# Altium footprint library PcbLib.PcbLib: 22 footprints (part 1 of 2)
Each footprint in its own frame and in the unit in brackets; x right, y up, seen from the top. Pads: shape width x height; smd on the part's side, far side on the other; paste and mask are expansions set on the pad; w line width, h text height; cw(c..) or ccw(c..) is an arc to the next point about the centre after c.
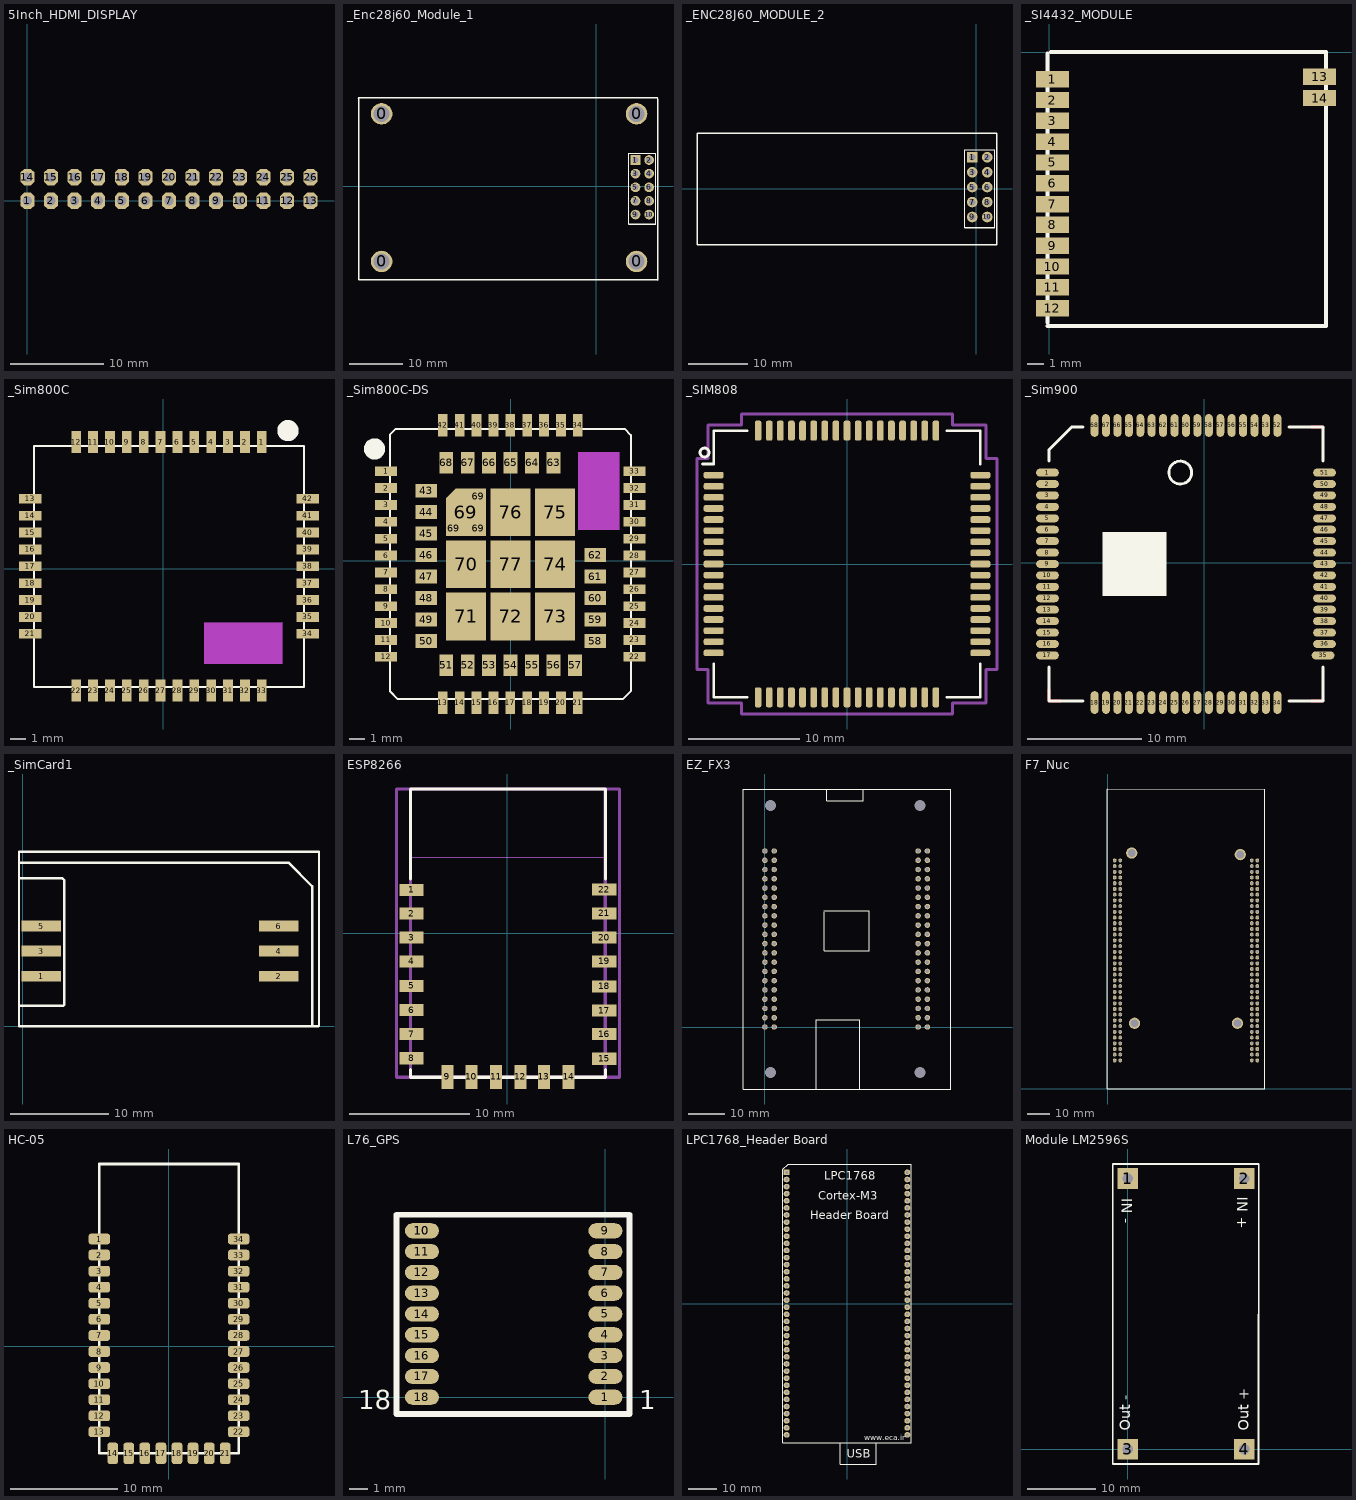
[diagram p0: the footprints below, top view; thin cyan lines are the x and y axes]

## 5Inch_HDMI_DISPLAY [mm]
pads (26):
  oct 1.5x1.8 hole 1: 1(0,0) 2(2.54,0) 3(5.08,0) 4(7.62,0) 5(10.16,0) 6(12.7,0) 7(15.24,0) 8(17.78,0) 9(20.32,0) 10(22.86,0) 11(25.4,0) 12(27.94,0) 13(30.48,0) 14(0,2.54) 15(2.54,2.54) 16(5.08,2.54) 17(7.62,2.54) 18(10.16,2.54) 19(12.7,2.54) 20(15.24,2.54) 21(17.78,2.54) 22(20.32,2.54) 23(22.86,2.54) 24(25.4,2.54) 25(27.94,2.54) 26(30.48,2.54)

## _Enc28j60_Module_1 [mm]
pads (14):
  round 4 hole 3: 0(-40,-14) 0(-40,13.5) 0(7.5,-14) 0(7.5,13.5)
  rect 1.8x1.8 hole 1.1: 1(7.3,4.9)
  round 1.8 hole 1.1: 2(9.84,4.9) 3(7.3,2.36) 4(9.84,2.36) 5(7.3,-0.18) 6(9.84,-0.18) 7(7.3,-2.72) 8(9.84,-2.72) 9(7.3,-5.26) 10(9.84,-5.26)
Top Overlay:
  lines w0.2: 6.03,-7.1 6.03,4.265 6.03,6.17 11.11,6.17 11.11,4.265 11.11,-7.1
  lines w0.25: 6.03,-7.1 11.11,-7.1 ; 11.5,16.3 11.5,-17.5 11.4,-17.4 -44.3,-17.4 -44.3,16.4 -44.4,16.5 11.5,16.5

## _ENC28J60_MODULE_2 [mm]
pads (10):
  rect 1.8x1.8 hole 1.1: 1(-0.7,5.4)
  round 1.8 hole 1.1: 2(1.84,5.4) 3(-0.7,2.86) 4(1.84,2.86) 5(-0.7,0.32) 6(1.84,0.32) 7(-0.7,-2.22) 8(1.84,-2.22) 9(-0.7,-4.76) 10(1.84,-4.76)
Top Overlay:
  lines w0.2: -1.97,-6.6 -1.97,4.765 -1.97,6.67 3.11,6.67 3.11,4.765 3.11,-6.6
  lines w0.25: -1.97,-6.6 3.11,-6.6 ; -47.5,-9.5 3.5,-9.5 3.5,9.5 -47.5,9.5 -47.5,-9.5

## _SI4432_MODULE [mm]
pads (14):
  rect 2x1 smd: 1(0.198,-1.651) 2(0.198,-2.921) 3(0.198,-4.191) 4(0.198,-5.461) 5(0.198,-6.731) 6(0.198,-8.001) 7(0.198,-9.271) 8(0.198,-10.541) 9(0.198,-11.811) 10(0.198,-13.081) 11(0.198,-14.351) 12(0.198,-15.621) 13(16.5,-1.5) 14(16.5,-2.8)
Top Overlay:
  lines w0.25: -0.094,-16.7 16.9,-16.7 16.9,0 0.109,0 ; -0.094,-16.5 -0.094,-0.1

## _Sim800C [mm]
pads (42):
  rect 0.635x1.45 smd: 1(6.427,8.274) 2(5.327,8.274) 3(4.227,8.274) 4(3.127,8.274) 5(2.027,8.274) 6(0.927,8.274) 7(-0.173,8.274) 8(-1.273,8.274) 9(-2.373,8.274) 10(-3.473,8.274) 11(-4.573,8.274) 12(-5.673,8.274) 22(-5.673,-7.926) 23(-4.573,-7.926) 24(-3.473,-7.926) 25(-2.373,-7.926) 26(-1.273,-7.926) 27(-0.173,-7.926) 28(0.927,-7.926) 29(2.027,-7.926) 30(3.127,-7.926) 31(4.227,-7.926) 32(5.327,-7.926) 33(6.427,-7.926)
  rect 1.45x0.635 smd: 13(-8.673,4.574) 14(-8.673,3.474) 15(-8.673,2.374) 16(-8.673,1.274) 17(-8.673,0.174) 18(-8.673,-0.926) 19(-8.673,-2.026) 20(-8.673,-3.126) 21(-8.673,-4.226) 34(9.427,-4.226) 35(9.427,-3.126) 36(9.427,-2.026) 37(9.427,-0.926) 38(9.427,0.174) 39(9.427,1.274) 40(9.427,2.374) 41(9.427,3.474) 42(9.427,4.574)
Top Overlay:
  circle w0.813: c8.128,9.017 r0.284
  lines w0.127: -8.423,-7.676 9.177,-7.676 9.177,8.024 -8.423,8.024 -8.423,-7.676
Mechanical 8 keep-out:
  rectangle: 2.667,-6.196 7.767,-3.496
Mechanical 9 keep-out:
  rectangle: 2.667,-6.196 7.767,-3.496

## _Sim800C-DS [mm]
pads (80):
  rect 1.45x0.635 smd: 1(-8.12,5.846) 2(-8.12,4.746) 3(-8.12,3.646) 4(-8.12,2.546) 5(-8.12,1.446) 6(-8.12,0.346) 7(-8.12,-0.754) 8(-8.12,-1.854) 9(-8.12,-2.954) 10(-8.12,-4.054) 11(-8.12,-5.154) 12(-8.12,-6.254) 22(8.08,-6.254) 23(8.08,-5.154) 24(8.08,-4.054) 25(8.08,-2.954) 26(8.08,-1.854) 27(8.08,-0.754) 28(8.08,0.346) 29(8.08,1.446) 30(8.08,2.546) 31(8.08,3.646) 32(8.08,4.746) 33(8.08,5.846)
  rect 0.635x1.45 smd: 13(-4.42,-9.254) 14(-3.32,-9.254) 15(-2.22,-9.254) 16(-1.12,-9.254) 17(-0.02,-9.254) 18(1.08,-9.254) 19(2.18,-9.254) 20(3.28,-9.254) 21(4.38,-9.254) 34(4.38,8.846) 35(3.28,8.846) 36(2.18,8.846) 37(1.08,8.846) 38(-0.02,8.846) 39(-1.12,8.846) 40(-2.22,8.846) 41(-3.32,8.846) 42(-4.42,8.846)
  rect 1.4x0.9 smd: 43(-5.5,4.575) 44(-5.5,3.175) 45(-5.5,1.775) 46(-5.5,0.375) 47(-5.5,-1.025) 48(-5.5,-2.425) 49(-5.5,-3.825) 50(-5.5,-5.225) 58(5.5,-5.225) 59(5.5,-3.825) 60(5.5,-2.425) 61(5.5,-1.025) 62(5.5,0.375)
  rect 0.9x1.4 smd: 51(-4.2,-6.8) 52(-2.8,-6.8) 53(-1.4,-6.8) 54(0,-6.8) 55(1.4,-6.8) 56(2.8,-6.8) 57(4.2,-6.8) 63(2.8,6.4) 64(1.4,6.4) 65(0,6.4) 66(-1.4,6.4) 67(-2.8,6.4) 68(-4.2,6.4)
  rect 1x1 smd mask+0.102: 69(-3.72,2.124) 69(-2.12,2.124) 69(-2.12,4.224)
  oct 2.6x3.1 smd mask+0.102: 69(-2.92,3.174)
  rect 2.6x3.1 smd: 70(-2.9,-0.225) 71(-2.9,-3.625) 72(0,-3.625) 73(2.9,-3.625) 74(2.9,-0.225) 75(2.9,3.175) 76(0,3.175) 77(0,-0.225)
Top Overlay:
  circle w0.813: c-8.863,7.293 r0.284
  lines w0.127: -7.87,-8.48 -7.87,8.205 -7.479,8.596 7.429,8.596 7.83,8.195 7.83,-8.495 7.321,-9.004 -7.346,-9.004 -7.87,-8.48
Mechanical 8 keep-out:
  region: 7.1,2 7.1,7.1 4.4,7.1 4.4,2
Mechanical 9 keep-out:
  region: 7.1,2 7.1,7.1 4.4,7.1 4.4,2

## _SIM808 [mm]
pads (68):
  rrect60% 1.8x0.6 smd: 1(-12,8) 2(-12,7) 3(-12,6) 4(-12,5) 5(-12,4) 6(-12,3) 7(-12,2) 8(-12,1) 9(-12,0) 10(-12,-1) 11(-12,-2) 12(-12,-3) 13(-12,-4) 14(-12,-5) 15(-12,-6) 16(-12,-7) 17(-12,-8) 35(12,-8) 36(12,-7) 37(12,-6) 38(12,-5) 39(12,-4) 40(12,-3) 41(12,-2) 42(12,-1) 43(12,0) 44(12,1) 45(12,2) 46(12,3) 47(12,4) 48(12,5) 49(12,6) 50(12,7) 51(12,8)
  rrect60% 0.6x1.8 smd: 18(-8,-12) 19(-7,-12) 20(-6,-12) 21(-5,-12) 22(-4,-12) 23(-3,-12) 24(-2,-12) 25(-1,-12) 26(0,-12) 27(1,-12) 28(2,-12) 29(3,-12) 30(4,-12) 31(5,-12) 32(6,-12) 33(7,-12) 34(8,-12) 52(8,12) 53(7,12) 54(6,12) 55(5,12) 56(4,12) 57(3,12) 58(2,12) 59(1,12) 60(0,12) 61(-1,12) 62(-2,12) 63(-3,12) 64(-4,12) 65(-5,12) 66(-6,12) 67(-7,12) 68(-8,12)
Top Overlay:
  circle w0.254: c-12.827,10.033 r0.402
  lines w0.254: -13,9 -12,9 -12,12 -9,12 ; -12,-9 -12,-12 -9,-12 ; 9,-12 12,-12 12,-9 ; 9,12 12,12 12,9
Mechanical 27:
  lines w0.254: -13.5,-9.5 -13.5,9.5 -12.5,9.5 -12.5,12.5 -9.5,12.5 -9.5,13.5 9.5,13.5 9.5,12.5 12.5,12.5 12.5,9.5 13.5,9.5 13.5,-9.5 12.5,-9.5 12.5,-12.5 9.5,-12.5 9.5,-13.5 -9.5,-13.5 -9.5,-12.5 -12.5,-12.5 -12.5,-9.5 -13.5,-9.5

## _Sim900 [mm]
pads (68):
  oval 2x0.7 smd: 1(-13.716,7.874) 2(-13.716,6.874) 3(-13.716,5.874) 4(-13.716,4.874) 5(-13.716,3.874) 6(-13.716,2.874) 7(-13.716,1.874) 8(-13.716,0.874) 9(-13.716,-0.126) 10(-13.716,-1.126) 11(-13.716,-2.126) 12(-13.716,-3.126) 13(-13.716,-4.126) 14(-13.716,-5.126) 15(-13.716,-6.126) 16(-13.716,-7.126) 17(-13.716,-8.126) 35(10.411,-8.126) 36(10.541,-7.126) 37(10.541,-6.126) 38(10.541,-5.126) 39(10.541,-4.126) 40(10.541,-3.126) 41(10.541,-2.126) 42(10.541,-1.126) 43(10.541,-0.126) 44(10.541,0.874) 45(10.541,1.874) 46(10.541,2.874) 47(10.541,3.874) 48(10.541,4.874) 49(10.541,5.874) 50(10.541,6.874) 51(10.541,7.874)
  oval 0.7x2 smd: 18(-9.589,-12.253) 19(-8.589,-12.253) 20(-7.589,-12.253) 21(-6.589,-12.253) 22(-5.589,-12.253) 23(-4.589,-12.253) 24(-3.589,-12.253) 25(-2.589,-12.253) 26(-1.589,-12.253) 27(-0.589,-12.253) 28(0.411,-12.253) 29(1.411,-12.253) 30(2.411,-12.253) 31(3.411,-12.253) 32(4.411,-12.253) 33(5.411,-12.253) 34(6.411,-12.253) 52(6.411,12.001) 53(5.411,12.001) 54(4.411,12.001) 55(3.411,12.001) 56(2.411,12.001) 57(1.411,12.001) 58(0.411,12.001) 59(-0.589,12.001) 60(-1.589,12.001) 61(-2.589,12.001) 62(-3.589,12.001) 63(-4.589,12.001) 64(-5.589,12.001) 65(-6.589,12.001) 66(-7.589,12.001) 67(-8.589,12.001) 68(-9.589,12.001)
Top Layer:
  lines w0.254: -13.589,-11.126 -13.589,-12.126 -12.589,-12.126 ; 9.411,-12.126 10.411,-12.126 ; 9.411,11.874 10.411,11.874
Top Overlay:
  circle w0.254: c-2.089,7.874 r1
  rectangle: -8.889,-2.926 -3.289,2.674
  lines w0.254: -13.589,-9.126 -13.589,-12.126 -10.589,-12.126 ; -13.589,8.874 -13.589,9.874 -11.589,11.874 -10.589,11.874 ; 7.411,-12.126 10.411,-12.126 10.411,-9.126 ; 7.411,11.874 10.411,11.874 10.411,8.874

## _SimCard1 [mm]
pads (6):
  rect 4x1.1 smd: 1(1.84,5.08) 2(25.9,5.08) 3(1.84,7.62) 4(25.9,7.62) 5(1.84,10.16) 6(25.9,10.16)
Top Overlay:
  lines w0.25: -0.3,15 2.6,15 4,15 4.2,14.8 4.2,2.2 4.1,2.1 2,2.1 ; -0.3,16.6 26.9,16.6 29.3,14.2 29.3,0 ; -0.2,2.1 2.8,2.1 ; -0.4,0 -0.4,17.7 30,17.7 30,0.1 29.9,0 -0.4,0

## ESP8266 [mm]
pads (22):
  rect 2x1 smd: 1(-7.95,3.607) 2(-7.95,1.637) 3(-7.95,-0.363) 4(-7.95,-2.333) 5(-7.95,-4.373) 6(-7.95,-6.383) 7(-7.95,-8.373) 8(-7.95,-10.383) 15(8.05,-10.423) 16(8.05,-8.383) 17(8.05,-6.423) 18(8.05,-4.403) 19(8.05,-2.343) 20(8.05,-0.363) 21(8.05,1.657) 22(8.05,3.637)
  rect 1x2 smd: 9(-4.98,-11.938) 10(-3,-11.938) 11(-0.94,-11.938) 12(1.08,-11.938) 13(3.04,-11.938) 14(5.08,-11.938)
Top Overlay:
  lines w0.254: -8.034,-11.31 -8.034,-11.962 8.134,-11.962 8.134,-11.309 ; -8.034,4.523 -8.034,11.978 8.134,11.978 8.134,4.523
Mechanical 13:
  lines w0.051: -8.077,6.334 -8.077,11.989 8.179,11.989 8.179,6.334 -8.077,6.334
  lines w0.254: -8.034,-11.961 8.134,-11.961 8.134,11.978 -8.034,11.978 -8.034,-11.961
Mechanical 15:
  lines w0.254: -9.22,-11.961 -9.22,11.978 9.322,11.978 9.322,-11.961 -9.22,-11.961
3D body "User Library-ESP8266-12E.STEP": height 2.6, standoff -0.4, extent -7.949,-11.938 8.051,12.442

## EZ_FX3 [mm]
pads (84):
  round 1.5 hole 3: 2(1.5,-12.5) 2(1.5,60.76) 2(42.5,-12.5) 2(42.5,60.76)
  round 1.5 hole 1: 4(0,7.62) 5(0,10.16) 6(0,12.7) 7(0,15.24) 8(0,17.78) 9(0,20.32) 10(0,22.86) 11(0,25.4) 12(0,27.94) 13(0,30.48) 14(0,33.02) 15(0,35.56) 16(0,38.1) 17(0,40.64) 18(0,43.18) 19(0,45.72) 20(0,48.26) 24(2.54,7.62) 25(2.54,10.16) 26(2.54,12.7) 27(2.54,15.24) 28(2.54,17.78) 29(2.54,20.32) 30(2.54,22.86) 31(2.54,25.4) 32(2.54,27.94) 33(2.54,30.48) 34(2.54,33.02) 35(2.54,35.56) 36(2.54,38.1) 38(2.54,43.18) 40(2.54,48.26) 43(42,5.08) 44(42,7.62) 45(42,10.16) 46(42,12.7) 47(42,15.24) 48(42,17.78) 49(42,20.32) 50(42,22.86) 51(42,25.4) 52(42,27.94) 53(42,30.48) 54(42,33.02) 55(42,35.56) 56(42,38.1) 57(42,40.64) 58(42,43.18) 59(42,45.72) 62(44.54,2.54) 64(44.54,7.62) 65(44.54,10.16) 66(44.54,12.7) 70(44.54,22.86) 71(44.54,25.4) 72(44.54,27.94) 74(44.54,33.02) 76(44.54,38.1) 77(44.54,40.64) 78(44.54,43.18) 79(44.54,45.72) GND(0,5.08) GND(2.54,5.08) GND(2.54,40.64) GND(2.54,45.72) GND(42,48.26) GND(44.54,15.24) GND(44.54,17.78) GND(44.54,20.32) GND(44.54,30.48) GND(44.54,35.56) GND(44.54,48.26) NC(44.54,5.08) V_1.2v(0,0) V_1.2v(42,0) V_3.3v(2.54,0) V_3.3v(44.54,0) V_BUS(0,2.54) V_BUS(2.54,2.54) VIO(42,2.54)
Top Overlay:
  lines w0.3: 14,-17 14,2 26,2 26,-17 ; 16.2,31.45 16.2,20.95 16.25,20.9 28.575,20.9 28.575,31.85 28.5,31.925 16.325,31.925 16.2,31.8 ; 17,65.225 17,62.025 17.025,62.05 27,62.05 ; 27,62.175 27,65.075 ; -6,-17 -6,65.26 51,65.26 51,-17 -6,-17

## F7_Nuc [mm]
pads (148):
  oct 1.5x1.8 hole 1: 1(3.125,12.605) 2(5.665,12.605) 3(3.125,15.145) 4(5.665,15.145) 5(3.125,17.685) 6(5.665,17.685) 7(3.125,20.225) 8(5.665,20.225) 9(3.125,22.765) 10(5.665,22.765) 11(3.125,25.305) 12(5.665,25.305) 13(3.125,27.845) 14(5.665,27.845) 15(3.125,30.385) 16(5.665,30.385) 17(3.125,32.925) 18(5.665,32.925) 19(3.125,35.465) 20(5.665,35.465) 21(3.125,38.005) 22(5.665,38.005) 23(3.125,40.545) 24(5.665,40.545) 25(3.125,43.085) 26(5.665,43.085) 27(3.125,45.625) 28(5.665,45.625) 29(3.125,48.165) 30(5.665,48.165) 31(3.125,50.705) 32(5.665,50.705) 33(3.125,53.245) 34(5.665,53.245) 35(3.125,55.785) 36(5.665,55.785) 37(3.125,58.325) 38(5.665,58.325) 39(3.125,60.865) 40(5.665,60.865) 41(3.125,63.405) 42(5.665,63.405) 43(3.125,65.945) 44(5.665,65.945) 45(3.125,68.485) 46(5.665,68.485) 47(3.125,71.025) 48(5.665,71.025) 49(3.125,73.565) 50(5.665,73.565) 51(3.125,76.105) 52(5.665,76.105) 53(3.125,78.645) 54(5.665,78.645) 55(3.125,81.185) 56(5.665,81.185) 57(3.125,83.725) 58(5.665,83.725) 59(3.125,86.265) 60(5.665,86.265) 61(3.125,88.805) 62(5.665,88.805) 63(3.125,91.345) 64(5.665,91.345) 65(3.125,93.885) 66(5.665,93.885) 67(3.125,96.425) 68(5.665,96.425) 69(3.125,98.965) 70(5.665,98.965) 71(3.125,101.505) 72(5.665,101.505) 73(64.085,12.605) 74(66.625,12.605) 75(64.085,15.145) 76(66.625,15.145) 77(64.085,17.685) 78(66.625,17.685) 79(64.085,20.225) 80(66.625,20.225) 81(64.085,22.765) 82(66.625,22.765) 83(64.085,25.305) 84(66.625,25.305) 85(64.085,27.845) 86(66.625,27.845) 87(64.085,30.385) 88(66.625,30.385) 89(64.085,32.925) 90(66.625,32.925) 91(64.085,35.465) 92(66.625,35.465) 93(64.085,38.005) 94(66.625,38.005) 95(64.085,40.545) 96(66.625,40.545) 97(64.085,43.085) 98(66.625,43.085) 99(64.085,45.625) 100(66.625,45.625) 101(64.085,48.165) 102(66.625,48.165) 103(64.085,50.705) 104(66.625,50.705) 105(64.085,53.245) 106(66.625,53.245) 107(64.085,55.785) 108(66.625,55.785) 109(64.085,58.325) 110(66.625,58.325) 111(64.085,60.865) 112(66.625,60.865) 113(64.085,63.405) 114(66.625,63.405) 115(64.085,65.945) 116(66.625,65.945) 117(64.085,68.485) 118(66.625,68.485) 119(64.085,71.025) 120(66.625,71.025) 121(64.085,73.565) 122(66.625,73.565) 123(64.085,76.105) 124(66.625,76.105) 125(64.085,78.645) 126(66.625,78.645) 127(64.085,81.185) 128(66.625,81.185) 129(64.085,83.725) 130(66.625,83.725) 131(64.085,86.265) 132(66.625,86.265) 133(64.085,88.805) 134(66.625,88.805) 135(64.085,91.345) 136(66.625,91.345) 137(64.085,93.885) 138(66.625,93.885) 139(64.085,96.425) 140(66.625,96.425) 141(64.085,98.965) 142(66.625,98.965) 143(64.085,101.505) 144(66.625,101.505)
  round 5 hole 3.5: ""(10.745,104.745) ""(12.015,29.115) ""(57.735,29.115) ""(59.005,104.065)
Top Overlay:
  lines w0.3: -0.125,133.215 -0.125,-0.095 69.875,-0.095 69.875,133.215 -0.125,133.245

## HC-05 [mm]
pads (34):
  rrect50% 2x1 smd: 1(-6.5,10) 2(-6.5,8.5) 3(-6.5,7) 4(-6.5,5.5) 5(-6.5,4) 6(-6.5,2.5) 7(-6.5,1) 8(-6.5,-0.5) 9(-6.5,-2) 10(-6.5,-3.5) 11(-6.5,-5) 12(-6.5,-6.5) 13(-6.5,-8) 22(6.5,-8) 23(6.5,-6.5) 24(6.5,-5) 25(6.5,-3.5) 26(6.5,-2) 27(6.5,-0.5) 28(6.5,1) 29(6.5,2.5) 30(6.5,4) 31(6.5,5.5) 32(6.5,7) 33(6.5,8.5) 34(6.5,10)
  rrect50% 1x2 smd: 14(-5.254,-10) 15(-3.754,-10) 16(-2.254,-10) 17(-0.754,-10) 18(0.746,-10) 19(2.246,-10) 20(3.746,-10) 21(5.246,-10)
Top Overlay:
  lines w0.254: -6.5,-10 6.5,-10 6.5,17 -6.5,17 -6.5,-10
3D body "User Library-Module Bluetooth.STEP": height 2.5, standoff 0.06, extent -6.501,-9.768 6.501,17.133

## L76_GPS [mm]
pads (19):
  oval 1.8x0.8 smd: 1(0,0) 2(0,1.1) 3(0,2.2) 4(0,3.3) 5(0,4.4) 6(0,5.5) 7(0,6.6) 8(0,7.7) 9(0,8.8) 10(-9.7,8.8) 10(-9.7,8.8) 11(-9.7,7.7) 12(-9.7,6.6) 13(-9.7,5.5) 14(-9.7,4.4) 15(-9.7,3.3) 16(-9.7,2.2) 17(-9.7,1.1) 18(-9.7,0)
Top Overlay:
  lines w0.3: -11.049,-0.889 -11.049,9.652 1.27,9.652 1.27,-0.889 -11.049,-0.889
  text "18" at -13.081,-0.635 h1
  text "1" at 1.778,-0.635 h1

## LPC1768_Header Board [mm]
pads (76):
  rect 2.2x2 hole 1: 1(-21.6,46.99)
  oval 2.2x2 hole 1: 2(-21.6,44.45) 3(-21.6,41.91) 4(-21.6,39.37) 5(-21.6,36.83) 6(-21.6,34.29) 7(-21.6,31.75) 8(-21.6,29.21) 9(-21.6,26.67) 10(-21.6,24.13) 11(-21.6,21.59) 12(-21.6,19.05) 13(-21.6,16.51) 14(-21.6,13.97) 15(-21.6,11.43) 16(-21.6,8.89) 17(-21.6,6.35) 18(-21.6,3.81) 19(-21.6,1.27) 20(-21.6,-1.27) 21(-21.6,-3.81) 22(-21.6,-6.35) 23(-21.6,-8.89) 24(-21.6,-11.43) 25(-21.6,-13.97) 26(-21.6,-16.51) 27(-21.6,-19.05) 28(-21.6,-21.59) 29(-21.6,-24.13) 30(-21.6,-26.67) 31(-21.6,-29.21) 32(-21.6,-31.75) 33(-21.6,-34.29) 34(-21.6,-36.83) 35(-21.6,-39.37) 36(-21.6,-41.91) 37(-21.6,-44.45) 38(-21.6,-46.99) 39(21.6,-46.99) 40(21.6,-44.45) 41(21.6,-41.91) 42(21.6,-39.37) 43(21.6,-36.83) 44(21.6,-34.29) 45(21.6,-31.75) 46(21.6,-29.21) 47(21.6,-26.67) 48(21.6,-24.13) 49(21.6,-21.59) 50(21.6,-19.05) 51(21.6,-16.51) 52(21.6,-13.97) 53(21.6,-11.43) 54(21.6,-8.89) 55(21.6,-6.35) 56(21.6,-3.81) 57(21.6,-1.27) 58(21.6,1.27) 59(21.6,3.81) 60(21.6,6.35) 61(21.6,8.89) 62(21.6,11.43) 63(21.6,13.97) 64(21.6,16.51) 65(21.6,19.05) 66(21.6,21.59) 67(21.6,24.13) 68(21.6,26.67) 69(21.6,29.21) 70(21.6,31.75) 71(21.6,34.29) 72(21.6,36.83) 73(21.6,39.37) 74(21.6,41.91) 75(21.6,44.45) 76(21.6,46.99)
Top Overlay:
  lines w0.254: -2.4,-49.8 -2.4,-57.4 10.4,-57.4 10.4,-49.8 ; -23,-49.8 -23,48.11 -21.11,50 23,50 23,-49.8 -23,-49.8
  text "www.eca.ir" at 6.18,-48.86 h2
  text "USB" at -0.11,-55.17 h3
  text "LPC1768" at -8.09,44.32 h3
  text "Cortex-M3" at -10.368,37.255 h3
  text "Header Board" at -13.132,30.19 h3

## Module LM2596S [mm]
pads (4):
  rect 3x3 hole 1.5: 1(0,39.5) 2(17,39.5) 3(0,0) 4(17,0)
Top Overlay:
  lines w0.254: -2.193,-2.17 19.092,-2.17 19.117,41.619 -2.193,41.619 -2.193,-2.145
  text "Out +" at 17.695,2.656 h1.52
  text "IN -" at -0.847,36.641 h1.52
  text "Out -" at 0.372,2.707 h1.52
  text "IN +" at 16.018,36.844 h1.52
3D body "User Library-Single Pin Header.STEP": height 4.81, standoff -5.98, extent 15.73,38.23 18.27,40.77
3D body "User Library-Single Pin Header.STEP": height 4.81, standoff -5.98, extent -1.27,38.23 1.27,40.77
3D body "User Library-Single Pin Header.STEP": height 4.81, standoff -5.98, extent -1.27,-1.27 1.27,1.27
3D body "User Library-Single Pin Header.STEP": height 4.81, standoff -5.98, extent 15.73,-1.27 18.27,1.27
3D body "User Library-DC-DC MODULE LM2596s.STEP": height 15.41, standoff 1.6, extent -1.975,-2.101 19.025,41.399